# Altium schematic symbol library Schlib2.SchLib: 6 symbols
Pins are listed as number, name and electrical type; pins without a type are passive.

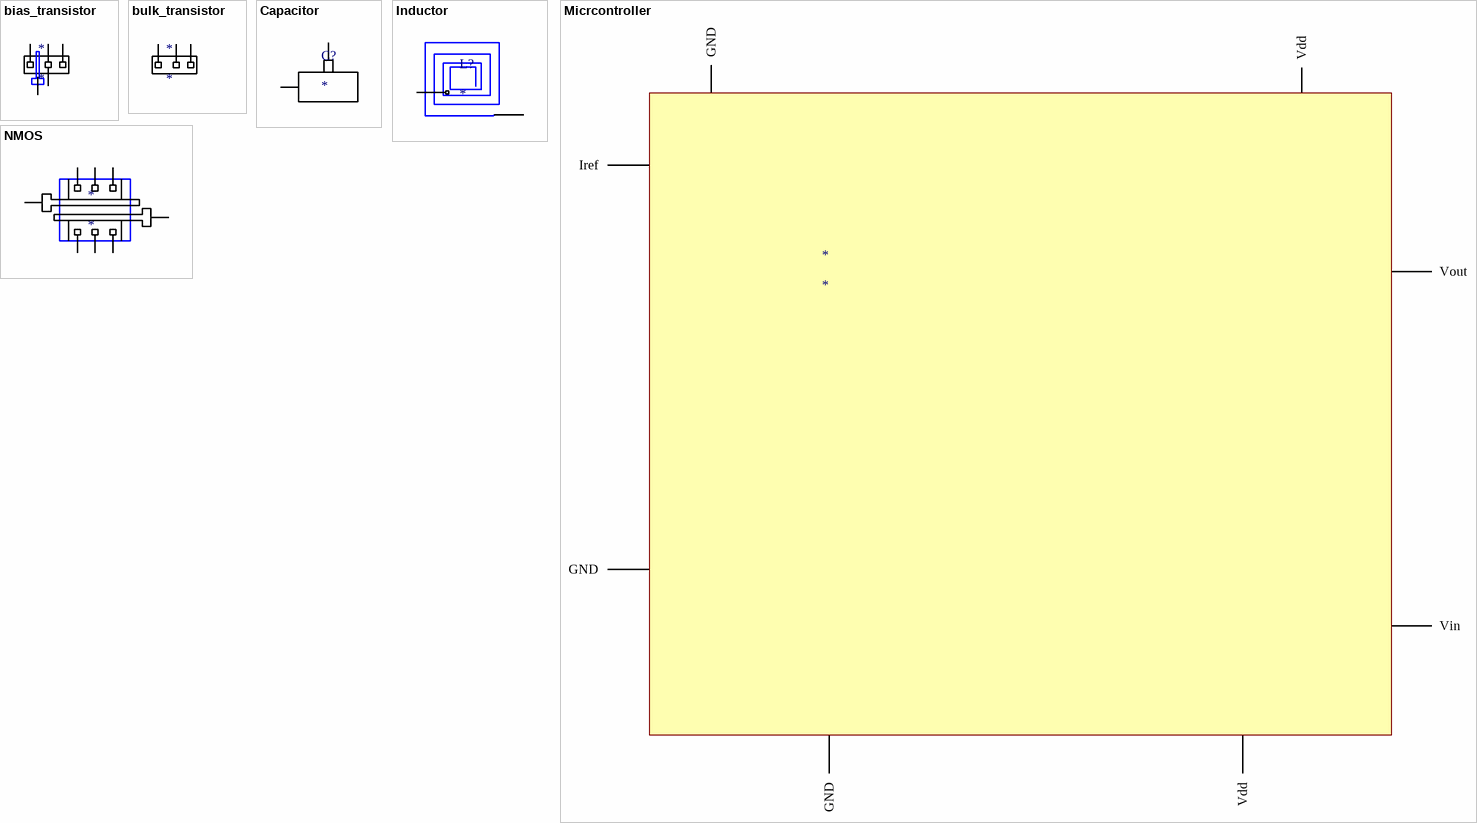
[diagram p0: symbols bias_transistor to NMOS]

## bias_transistor
designator *
pins: 13, 13, 13, 13, 13

## bulk_transistor
designator *
pins: 13, 13, 13

## Capacitor
designator C?
footprint Capacitor
pins: 13, 13

## Inductor
designator L?
pins: 13, 13

## Micrcontroller
designator *
pins: 6 GND, 6 Iref, 6 Vout, 6 Vin, 6 GND, 6 Vdd, ?1 GND, ?2 Vdd

## NMOS
designator *
pins: 13, 13, 13, 13, 13, 13, 13, 13